# Altium schematic symbol library 74xxx1G08GW-SOT353-1.SchLib: 1 symbol
Pins are listed as number, name and electrical type; pins without a type are passive.

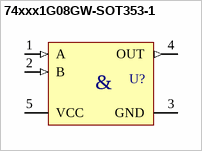
[diagram p0: symbol 74xxx1G08GW-SOT353-1]

## 74xxx1G08GW-SOT353-1
designator U?  (value not drawn)
pins: 1 A (in), 2 B (in), 3 GND (power), 4 OUT (out), 5 VCC (power)
text: &